# Altium schematic symbol library Schlib1.SchLib: 36 symbols
Pins are listed as number, name and electrical type; pins without a type are passive.

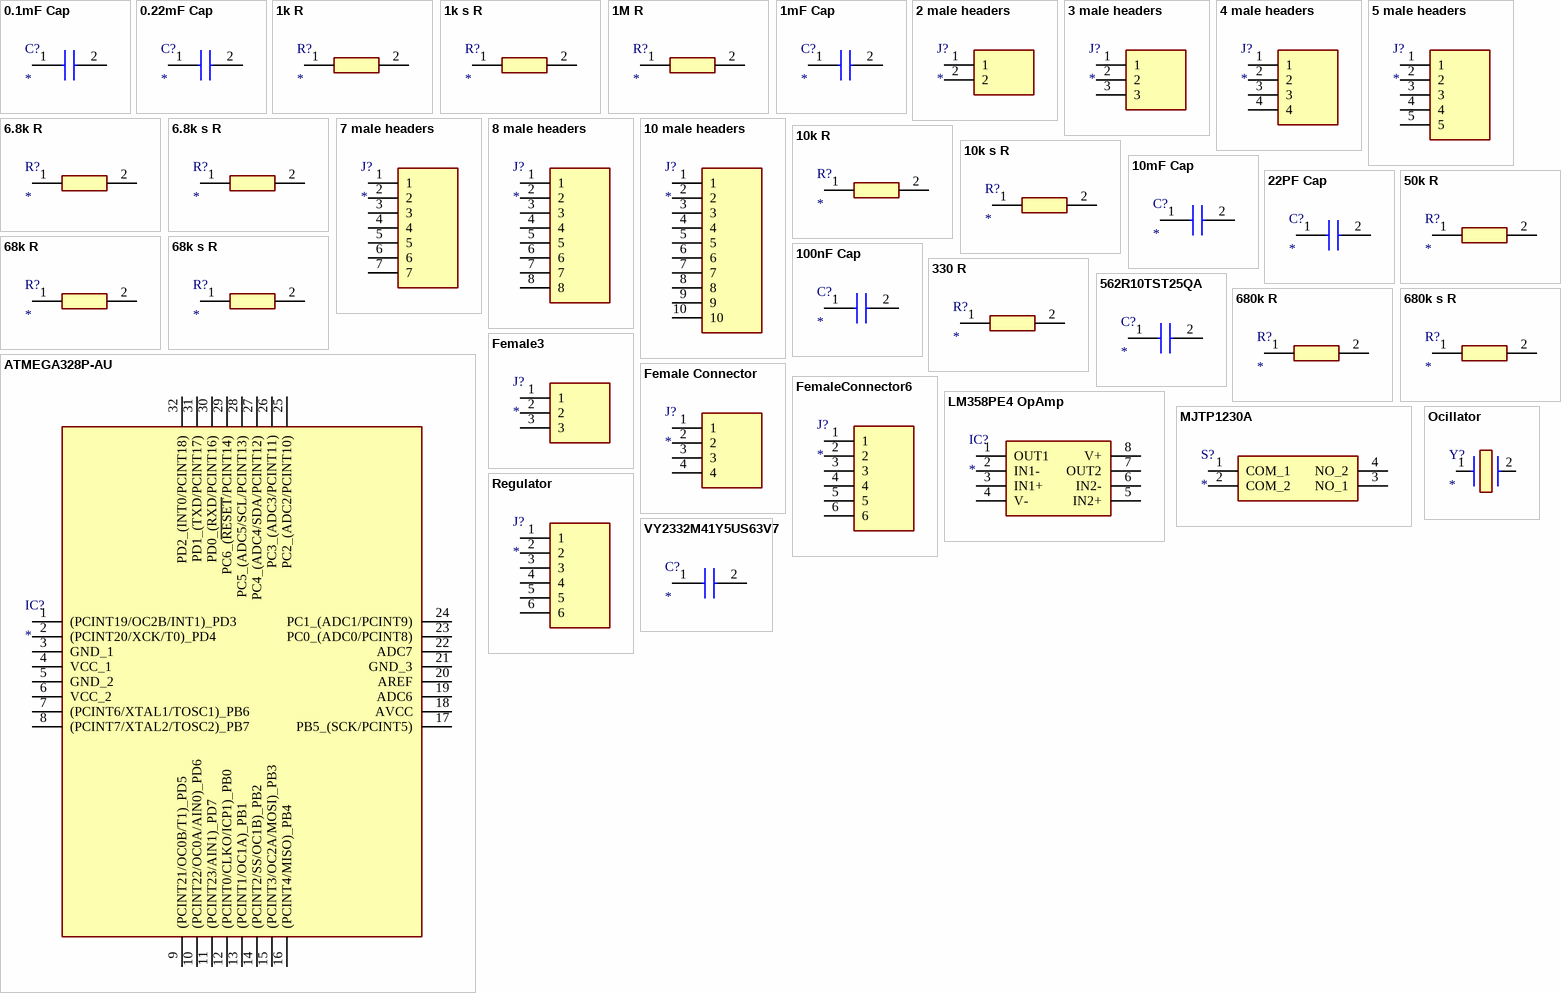
[diagram p0: symbols 0.1mF Cap to VY2332M41Y5US63V7]

## 0.1mF Cap
designator C?
Capacitor; Manufacturer_Name: Vishay; Manufacturer_Part_Number: VY2332M41Y5US63V7; Datasheet Link: https://datasheet.datasheetarchive.com/originals/dk/DKDS-39/9814.pdf; Height: 13.5mm; Mouser Part Number: 72-VY2332M41Y5US63V7; Mouser Price/Stock: https://www.mouser.co.uk/ProductDetail/Vishay-BC-Components/VY2332M41Y5US63V7?qs=YhDfSRCt1jTfstvwiD5kGA%3D%3D
footprint VY2332M41Y5US63V7
pins: 1, 2

## 0.22mF Cap
designator C?
Capacitor; Manufacturer_Name: Vishay; Manufacturer_Part_Number: VY2332M41Y5US63V7; Datasheet Link: https://datasheet.datasheetarchive.com/originals/dk/DKDS-39/9814.pdf; Height: 13.5mm; Mouser Part Number: 72-VY2332M41Y5US63V7; Mouser Price/Stock: https://www.mouser.co.uk/ProductDetail/Vishay-BC-Components/VY2332M41Y5US63V7?qs=YhDfSRCt1jTfstvwiD5kGA%3D%3D
footprint VY2332M41Y5US63V7
pins: 1, 2

## 1k R
designator R?
Resistor; Manufacturer_Name: Vishay; Manufacturer_Part_Number: SFR2500001001JR500; Datasheet Link: https://componentsearchengine.com/Datasheets/1/SFR2500001001JR500.pdf; Mouser Part Number: 594-SFR2500001001JR5; Mouser Price/Stock: https://www.mouser.co.uk/ProductDetail/Vishay-BC-Components/SFR2500001001JR500?qs=58bml8Dt%2Fln%2FVZBlICel6g%3D%3D
footprint RESAD1750W63L750D250
pins: 1, 2

## 1k s R
designator R?
Resistor; Manufacturer_Name: Panasonic; Manufacturer_Part_Number: ERJ-UP6F5760V; Description: Anti-Sulfurated Thick Film Chip Resistors/ Anti-Surge Type; Datasheet Link: https://industrial.panasonic.com/cdbs/www-data/pdf/RDP0000/AOA0000C337.pdf; Height: 0.7mm; Mouser Part Number: 667-ERJ-UP6F5760V; Mouser Price/Stock: https://www.mouser.co.uk/ProductDetail/Panasonic/ERJ-UP6F5760V?qs=dbcCsuKDzFWkTsFWGgr5lA%3D%3D
footprint ERJUP6
pins: 1, 2

## 1M R
designator R?
Resistor; Manufacturer_Name: Vishay; Manufacturer_Part_Number: SFR2500001001JR500; Datasheet Link: https://componentsearchengine.com/Datasheets/1/SFR2500001001JR500.pdf; Mouser Part Number: 594-SFR2500001001JR5; Mouser Price/Stock: https://www.mouser.co.uk/ProductDetail/Vishay-BC-Components/SFR2500001001JR500?qs=58bml8Dt%2Fln%2FVZBlICel6g%3D%3D
footprint RESAD1750W63L750D250
pins: 1, 2

## 1mF Cap
designator C?
Capacitor; Manufacturer_Name: Vishay; Manufacturer_Part_Number: VY2332M41Y5US63V7; Datasheet Link: https://datasheet.datasheetarchive.com/originals/dk/DKDS-39/9814.pdf; Height: 13.5mm; Mouser Part Number: 72-VY2332M41Y5US63V7; Mouser Price/Stock: https://www.mouser.co.uk/ProductDetail/Vishay-BC-Components/VY2332M41Y5US63V7?qs=YhDfSRCt1jTfstvwiD5kGA%3D%3D
footprint VY2332M41Y5US63V7
pins: 1, 2

## 2 male headers
designator J?
Connector; Manufacturer_Name: TE Connectivity; Manufacturer_Part_Number: 826926-2; Description: Body Features: Primary Product Color Green | Configuration Features: Connector Contact Load Condition Fully Loaded | PCB Mount Orientation Vertical | Number of Rows 1 | Board-to-Board Configuration Parallel | Number of Positions 2 | Contact Features: Mating Square Post Dimension .025 INCH | Contact Current Rating (Max) 5 AMP | Contact Shape & Form Square | PCB Contact Termination Area Plating Material Thickness 2 MICM | Contact Underplating Material Nickel | Contact Type Pin | Contact Mating Area Plating Ma; Datasheet Link: http://www.te.com/commerce/DocumentDelivery/DDEController?Action=showdoc&DocId=Customer+Drawing%7F826629%7FAB%7Fpdf%7FEnglish%7FENG_CD_826629_AB.pdf%7F826926-2; Height: 9.7mm; Mouser Part Number: 571-826926-2; Mouser Price/Stock: https://www.mouser.co.uk/ProductDetail/TE-Connectivity/826926-2?qs=wMzmFFBcbXSakt8A2XXzBg%3D%3D; Arrow Part Number: 826926-2; Arrow Price/Stock: https://www.arrow.com/en/products/826926-2/te-connectivity?region=europe
footprint HDRV2W63P0X254_1X2_508X250X970P
pins: 1, 2

## 3 male headers
designator J?
Connector; Manufacturer_Name: TE Connectivity; Manufacturer_Part_Number: 826926-3; Description: Body Features: Primary Product Color Green | Configuration Features: PCB Mount Orientation Vertical | Number of Rows 1 | Connector Contact Load Condition Fully Loaded | Board-to-Board Configuration Parallel | Number of Positions 3 | Contact Features: Mating Square Post Dimension .025 INCH | PCB Contact Termination Area Plating Material Tin | Contact Base Material Phosphor Bronze | Contact Mating Area Plating Material Tin | Contact Current Rating (Max) 5 AMP | Contact Shape & Form Square | PCB Contact Termin; Datasheet Link: http://uk.rs-online.com/web/p/products/6695310; Height: 9.5mm; Mouser Part Number: 571-826926-3; Mouser Price/Stock: https://www.mouser.co.uk/ProductDetail/TE-Connectivity/826926-3?qs=wMzmFFBcbXTx9otzu9%252BXNQ%3D%3D; Arrow Part Number: 826926-3; Arrow Price/Stock: https://www.arrow.com/en/products/826926-3/te-connectivity?region=europe
footprint HDRV3W63P0X254_1X3_762X250X950P
pins: 1, 2, 3

## 4 male headers
designator J?
Connector; Manufacturer_Name: TE Connectivity; Manufacturer_Part_Number: 826629-4; Description: Body Features: Primary Product Color Green | Configuration Features: Number of Rows 1 | Number of Positions 4 | Connector Contact Load Condition Fully Loaded | PCB Mount Orientation Vertical | Board-to-Board Configuration Parallel | Contact Features: Contact Mating Area Plating Material Thickness .8 MICM | Contact Base Material Phosphor Bronze | Contact Underplating Material Nickel | Contact Type Pin | Contact Current Rating (Max) 5 AMP | Contact Shape & Form Square | Mating Square Post Dimension .025 INCH; Datasheet Link: https://componentsearchengine.com/Datasheets/2/826629-4.pdf; Height: 9.5mm; Mouser Part Number: 571-826629-4; Mouser Price/Stock: https://www.mouser.co.uk/ProductDetail/TE-Connectivity/826629-4?qs=FazuUmncXom81cYQ0o6zwQ%3D%3D; Arrow Part Number: 826629-4; Arrow Price/Stock: https://www.arrow.com/en/products/826629-4/te-connectivity?region=europe
footprint HDRV4W63P0X254_1X4_1016X250X950P
pins: 1, 2, 3, 4

## 5 male headers
designator J?
Connector; Manufacturer_Name: TE Connectivity; Manufacturer_Part_Number: 825433-5; Description: Body Features: Primary Product Color Green | Configuration Features: Number of Positions 5 | Connector Contact Load Condition Fully Loaded | Number of Rows 1 | Board-to-Board Configuration Parallel | PCB Mount Orientation Vertical | Contact Features: Contact Mating Area Plating Material Gold or Gold Flash over Palladium Nickel | Mating Square Post Dimension .025 INCH | PCB Contact Termination Area Plating Material Thickness 2.5 MICM | Contact Mating Area Plating Material Thickness .8 MICM | Contact Underpla; Datasheet Link: https://www.te.com/commerce/DocumentDelivery/DDEController?Action=srchrtrv&DocNm=825433&DocType=Customer+Drawing&DocLang=English&DocFormat=pdf&PartCntxt=825433-5; Height: 9.7mm; Mouser Part Number: 571-825433-5; Mouser Price/Stock: https://www.mouser.co.uk/ProductDetail/TE-Connectivity/825433-5?qs=Yxch5oR%2FTsPo6cKMIYPWXA%3D%3D; Arrow Part Number: 825433-5; Arrow Price/Stock: https://www.arrow.com/en/products/825433-5/te-connectivity?region=europe
footprint HDRV5W63P0X254_1X5_1270X254X970P
pins: 1, 2, 3, 4, 5

## 6.8k R
designator R?
Resistor; Manufacturer_Name: Vishay; Manufacturer_Part_Number: SFR2500001001JR500; Datasheet Link: https://componentsearchengine.com/Datasheets/1/SFR2500001001JR500.pdf; Mouser Part Number: 594-SFR2500001001JR5; Mouser Price/Stock: https://www.mouser.co.uk/ProductDetail/Vishay-BC-Components/SFR2500001001JR500?qs=58bml8Dt%2Fln%2FVZBlICel6g%3D%3D
footprint RESAD1750W63L750D250
pins: 1, 2

## 6.8k s R
designator R?
Resistor; Manufacturer_Name: Panasonic; Manufacturer_Part_Number: ERJ-UP6F5760V; Description: Anti-Sulfurated Thick Film Chip Resistors/ Anti-Surge Type; Datasheet Link: https://industrial.panasonic.com/cdbs/www-data/pdf/RDP0000/AOA0000C337.pdf; Height: 0.7mm; Mouser Part Number: 667-ERJ-UP6F5760V; Mouser Price/Stock: https://www.mouser.co.uk/ProductDetail/Panasonic/ERJ-UP6F5760V?qs=dbcCsuKDzFWkTsFWGgr5lA%3D%3D
footprint ERJUP6
pins: 1, 2

## 7 male headers
designator J?
Connector; Manufacturer_Name: Harwin; Manufacturer_Part_Number: M20-9770742; Description: 2.54mm (0.1") Pitch SIL Vertical Throughboard Pin Header; Datasheet Link: https://cdn.harwin.com/pdfs/M20-977.pdf; Height: 8.44mm; Mouser Part Number: 855-M20-9770742; Mouser Price/Stock: https://www.mouser.co.uk/ProductDetail/Harwin/M20-9770742?qs=Jph8NoUxIfVaDMw66mHBZA%3D%3D
footprint HDRV7W66P0X254_1X7_1778X254X844P
pins: 1, 2, 3, 4, 5, 6, 7

## 8 male headers
designator J?
Connector; Manufacturer_Name: Molex; Manufacturer_Part_Number: 87891-0808; Description: Headers & Wire Housings 2.54MM PITCH SRSW T/H HEADER 8 CKT; Datasheet Link: https://www.molex.com/pdm_docs/sd/878910808_sd.pdf; Height: 16.41mm; Mouser Part Number: 538-87891-0808; Mouser Price/Stock: https://www.mouser.co.uk/ProductDetail/Molex/87891-0808?qs=iLbezkQI%252Bsh%252BavKMBAJgwA%3D%3D
footprint HDRV8W69P0X254_1X8_2032X251X1641P
pins: 1, 2, 3, 4, 5, 6, 7, 8

## 10 male headers
designator J?
Connector; Manufacturer_Name: TE Connectivity; Manufacturer_Part_Number: 1-826629-0; Description: 10w Single row straight header gold; Datasheet Link: https://componentsearchengine.com/Datasheets/2/1-826629-0.pdf; Height: 9.5mm; Mouser Part Number: 571-1-826629-0; Mouser Price/Stock: https://www.mouser.co.uk/ProductDetail/TE-Connectivity/1-826629-0?qs=FazuUmncXom0aPLI6ZgGxg%3D%3D; Arrow Part Number: 1-826629-0; Arrow Price/Stock: https://www.arrow.com/en/products/1-826629-0/te-connectivity?region=europe
footprint HDRV10W63P0X254_1X10_2540X250X950P
pins: 1, 2, 3, 4, 5, 6, 7, 8, 9, 10

## 10k R
designator R?
Resistor; Manufacturer_Name: Vishay; Manufacturer_Part_Number: SFR2500001001JR500; Datasheet Link: https://componentsearchengine.com/Datasheets/1/SFR2500001001JR500.pdf; Mouser Part Number: 594-SFR2500001001JR5; Mouser Price/Stock: https://www.mouser.co.uk/ProductDetail/Vishay-BC-Components/SFR2500001001JR500?qs=58bml8Dt%2Fln%2FVZBlICel6g%3D%3D
footprint RESAD1750W63L750D250
pins: 1, 2

## 10k s R
designator R?
Resistor; Manufacturer_Name: Panasonic; Manufacturer_Part_Number: ERJ-UP6F5760V; Description: Anti-Sulfurated Thick Film Chip Resistors/ Anti-Surge Type; Datasheet Link: https://industrial.panasonic.com/cdbs/www-data/pdf/RDP0000/AOA0000C337.pdf; Height: 0.7mm; Mouser Part Number: 667-ERJ-UP6F5760V; Mouser Price/Stock: https://www.mouser.co.uk/ProductDetail/Panasonic/ERJ-UP6F5760V?qs=dbcCsuKDzFWkTsFWGgr5lA%3D%3D
footprint ERJUP6
pins: 1, 2

## 10mF Cap
designator C?
Capacitor; Manufacturer_Name: Vishay; Manufacturer_Part_Number: VY2332M41Y5US63V7; Datasheet Link: https://datasheet.datasheetarchive.com/originals/dk/DKDS-39/9814.pdf; Height: 13.5mm; Mouser Part Number: 72-VY2332M41Y5US63V7; Mouser Price/Stock: https://www.mouser.co.uk/ProductDetail/Vishay-BC-Components/VY2332M41Y5US63V7?qs=YhDfSRCt1jTfstvwiD5kGA%3D%3D
footprint VY2332M41Y5US63V7
pins: 1, 2

## 22PF Cap
designator C?
Capacitor; Manufacturer_Name: Vishay; Manufacturer_Part_Number: VY2332M41Y5US63V7; Datasheet Link: https://datasheet.datasheetarchive.com/originals/dk/DKDS-39/9814.pdf; Height: 13.5mm; Mouser Part Number: 72-VY2332M41Y5US63V7; Mouser Price/Stock: https://www.mouser.co.uk/ProductDetail/Vishay-BC-Components/VY2332M41Y5US63V7?qs=YhDfSRCt1jTfstvwiD5kGA%3D%3D
footprint VY2332M41Y5US63V7
pins: 1, 2

## 50k R
designator R?
Resistor; Manufacturer_Name: Vishay; Manufacturer_Part_Number: SFR2500001001JR500; Datasheet Link: https://componentsearchengine.com/Datasheets/1/SFR2500001001JR500.pdf; Mouser Part Number: 594-SFR2500001001JR5; Mouser Price/Stock: https://www.mouser.co.uk/ProductDetail/Vishay-BC-Components/SFR2500001001JR500?qs=58bml8Dt%2Fln%2FVZBlICel6g%3D%3D
footprint RESAD1750W63L750D250
pins: 1, 2

## 68k R
designator R?
Resistor; Manufacturer_Name: Vishay; Manufacturer_Part_Number: SFR2500001001JR500; Datasheet Link: https://componentsearchengine.com/Datasheets/1/SFR2500001001JR500.pdf; Mouser Part Number: 594-SFR2500001001JR5; Mouser Price/Stock: https://www.mouser.co.uk/ProductDetail/Vishay-BC-Components/SFR2500001001JR500?qs=58bml8Dt%2Fln%2FVZBlICel6g%3D%3D
footprint RESAD1750W63L750D250
pins: 1, 2

## 68k s R
designator R?
Resistor; Manufacturer_Name: Panasonic; Manufacturer_Part_Number: ERJ-UP6F5760V; Description: Anti-Sulfurated Thick Film Chip Resistors/ Anti-Surge Type; Datasheet Link: https://industrial.panasonic.com/cdbs/www-data/pdf/RDP0000/AOA0000C337.pdf; Height: 0.7mm; Mouser Part Number: 667-ERJ-UP6F5760V; Mouser Price/Stock: https://www.mouser.co.uk/ProductDetail/Panasonic/ERJ-UP6F5760V?qs=dbcCsuKDzFWkTsFWGgr5lA%3D%3D
footprint ERJUP6
pins: 1, 2

## 100nF Cap
designator C?
Capacitor; Manufacturer_Name: Vishay; Manufacturer_Part_Number: VY2332M41Y5US63V7; Datasheet Link: https://datasheet.datasheetarchive.com/originals/dk/DKDS-39/9814.pdf; Height: 13.5mm; Mouser Part Number: 72-VY2332M41Y5US63V7; Mouser Price/Stock: https://www.mouser.co.uk/ProductDetail/Vishay-BC-Components/VY2332M41Y5US63V7?qs=YhDfSRCt1jTfstvwiD5kGA%3D%3D
footprint VY2332M41Y5US63V7
pins: 1, 2

## 330 R
designator R?
Resistor; Manufacturer_Name: Vishay; Manufacturer_Part_Number: SFR2500001001JR500; Datasheet Link: https://componentsearchengine.com/Datasheets/1/SFR2500001001JR500.pdf; Mouser Part Number: 594-SFR2500001001JR5; Mouser Price/Stock: https://www.mouser.co.uk/ProductDetail/Vishay-BC-Components/SFR2500001001JR500?qs=58bml8Dt%2Fln%2FVZBlICel6g%3D%3D
footprint RESAD1750W63L750D250
pins: 1, 2

## 562R10TST25QA
designator C?
Capacitor; Manufacturer_Name: Vishay; Manufacturer_Part_Number: 562R10TST25QA; Datasheet Link: https://datasheet.datasheetarchive.com/originals/distributors/Datasheets-DGA10/2427068.pdf; Height: 9.575mm; Mouser Part Number: 75-562R10TST25QA; Mouser Price/Stock: https://www.mouser.co.uk/ProductDetail/Vishay/562R10TST25QA?qs=wq1WKBQ7GcxMfhFDiSc%252BoQ%3D%3D
footprint 562R10TST25QA
pins: 1, 2

## 680k R
designator R?
Resistor; Manufacturer_Name: Vishay; Manufacturer_Part_Number: SFR2500001001JR500; Datasheet Link: https://componentsearchengine.com/Datasheets/1/SFR2500001001JR500.pdf; Mouser Part Number: 594-SFR2500001001JR5; Mouser Price/Stock: https://www.mouser.co.uk/ProductDetail/Vishay-BC-Components/SFR2500001001JR500?qs=58bml8Dt%2Fln%2FVZBlICel6g%3D%3D
footprint RESAD1750W63L750D250
pins: 1, 2

## 680k s R
designator R?
Resistor; Manufacturer_Name: Panasonic; Manufacturer_Part_Number: ERJ-UP6F5760V; Description: Anti-Sulfurated Thick Film Chip Resistors/ Anti-Surge Type; Datasheet Link: https://industrial.panasonic.com/cdbs/www-data/pdf/RDP0000/AOA0000C337.pdf; Height: 0.7mm; Mouser Part Number: 667-ERJ-UP6F5760V; Mouser Price/Stock: https://www.mouser.co.uk/ProductDetail/Panasonic/ERJ-UP6F5760V?qs=dbcCsuKDzFWkTsFWGgr5lA%3D%3D
footprint ERJUP6
pins: 1, 2

## ATMEGA328P-AU
designator IC?
Integrated Circuit; Manufacturer_Name: Microchip; Manufacturer_Part_Number: ATMEGA328P-AU; Datasheet Link: https://componentsearchengine.com/Datasheets/2/ATMEGA328P-AU.pdf; Height: 1.2mm; Mouser Part Number: 556-ATMEGA328P-AU; Mouser Price/Stock: https://www.mouser.co.uk/ProductDetail/Microchip-Technology/ATMEGA328P-AU?qs=K8BHR703ZXiCmmgp6%2FGNmQ%3D%3D; Arrow Part Number: ATMEGA328P-AU; Arrow Price/Stock: https://www.arrow.com/en/products/atmega328p-au/microchip-technology?region=europe
footprint QFP80P900X900X120-32N
pins: 1 (PCINT19/OC2B/INT1)_PD3, 2 (PCINT20/XCK/T0)_PD4, 3 GND_1, 4 VCC_1, 5 GND_2, 6 VCC_2, 7 (PCINT6/XTAL1/TOSC1)_PB6, 8 (PCINT7/XTAL2/TOSC2)_PB7, 9 (PCINT21/OC0B/T1)_PD5, 10 (PCINT22/OC0A/AIN0)_PD6, 11 (PCINT23/AIN1)_PD7, 12 (PCINT0/CLKO/ICP1)_PB0, 13 (PCINT1/OC1A)_PB1, 14 (PCINT2/SS/OC1B)_PB2, 15 (PCINT3/OC2A/MOSI)_PB3, 16 (PCINT4/MISO)_PB4, 17 PB5_(SCK/PCINT5), 18 AVCC, 19 ADC6, 20 AREF, 21 GND_3, 22 ADC7, 23 PC0_(ADC0/PCINT8), 24 PC1_(ADC1/PCINT9), 25 PC2_(ADC2/PCINT10), 26 PC3_(ADC3/PCINT11), 27 PC4_(ADC4/SDA/PCINT12), 28 PC5_(ADC5/SCL/PCINT13), 29 PC6_(~{RESET}/PCINT14), 30 PD0_(RXD/PCINT16), 31 PD1_(TXD/PCINT17), 32 PD2_(INT0/PCINT18)

## Female3
designator J?
Connector; Manufacturer_Name: Harwin; Manufacturer_Part_Number: M20-7820342; Datasheet Link: https://cdn.harwin.com/pdfs/M20-782.pdf; Height: 8.65mm; Mouser Part Number: 855-M20-7820342; Mouser Price/Stock: https://www.mouser.co.uk/ProductDetail/Harwin/M20-7820342?qs=vF78I%252BjhbY%252B2BirjH3D7Cw%3D%3D
footprint RHDR3W70P0X254_1X3_802X250X865P
pins: 1, 2, 3

## Female Connector
designator J?
Connector; Manufacturer_Name: Harwin; Manufacturer_Part_Number: M20-7820442; Datasheet Link: https://cdn.harwin.com/pdfs/M20-782.pdf; Height: 8.65mm; Mouser Part Number: 855-M20-7820442; Mouser Price/Stock: https://www.mouser.co.uk/ProductDetail/Harwin/M20-7820442?qs=vF78I%252BjhbY9ZgDLCXkGx4w%3D%3D
footprint RHDR4W70P0X254_1X4_1056X250X865P
pins: 1, 2, 3, 4

## FemaleConnector6
designator J?
Connector; Manufacturer_Name: Harwin; Manufacturer_Part_Number: M20-7820646; Datasheet Link: https://cdn.harwin.com/pdfs/M20-782.pdf; Height: 8.65mm; Mouser Part Number: 855-M20-7820646; Mouser Price/Stock: https://www.mouser.co.uk/ProductDetail/Harwin/M20-7820646?qs=WS5Jv%252B%252Bx1qWZs4rbTjPGWw%3D%3D
footprint HDRV6W70P0X254_1X6_1564X250X865P
pins: 1, 2, 3, 4, 5, 6

## LM358PE4 OpAmp
designator IC?
Integrated Circuit; Manufacturer_Name: Texas Instruments; Manufacturer_Part_Number: LM358PE4; Datasheet Link: http://www.ti.com/lit/ds/symlink/lm358.pdf; Height: 5.08mm; Mouser Part Number: 595-LM358PE4; Mouser Price/Stock: https://www.mouser.co.uk/ProductDetail/Texas-Instruments/LM358PE4?qs=VBduBm9rCJTWtuRHSrRjAg%3D%3D; Arrow Part Number: LM358PE4; Arrow Price/Stock: https://www.arrow.com/en/products/lm358pe4/texas-instruments?region=nac
footprint DIP794W53P254L959H508Q8N
pins: 1 OUT1, 2 IN1-, 3 IN1+, 4 V-, 5 IN2+, 6 IN2-, 7 OUT2, 8 V+

## MJTP1230A
designator S?
Switch; Manufacturer_Name: Apem; Manufacturer_Part_Number: MJTP1230A; Datasheet Link: https://componentsearchengine.com/Datasheets/2/MJTP1230A.pdf; Height: 5mm; Mouser Part Number: 642-MJTP1230A; Mouser Price/Stock: https://www.mouser.co.uk/ProductDetail/Apem/MJTP1230A?qs=Uv2m1HzDAyrCq22V7auhWA%3D%3D
footprint MJTP1230A
pins: 1 COM_1, 2 COM_2, 3 NO_1, 4 NO_2

## Ocillator
designator Y?
Crystal or Oscillator; Manufacturer_Name: Vishay; Manufacturer_Part_Number: XT9S20ANA8M; Datasheet Link: https://www.vishay.com/docs/35014/xt49s.pdf; Height: 3.5mm; Mouser Part Number: 73-XT49S800-20; Mouser Price/Stock: https://www.mouser.co.uk/ProductDetail/Vishay-Dale/XT9S20ANA8M?qs=oFi4%2FQsgZXYxL7wCZW5FzA%3D%3D; Arrow Part Number: XT9S20ANA8M; Arrow Price/Stock: https://www.arrow.com/en/products/xt9s20ana8m/vishay?region=nac
footprint XT9S20ANA8M
pins: 1, 2

## Regulator
designator J?
Connector; Manufacturer_Name: Harwin; Manufacturer_Part_Number: M20-7820646; Datasheet Link: https://cdn.harwin.com/pdfs/M20-782.pdf; Height: 8.65mm; Mouser Part Number: 855-M20-7820646; Mouser Price/Stock: https://www.mouser.co.uk/ProductDetail/Harwin/M20-7820646?qs=WS5Jv%252B%252Bx1qWZs4rbTjPGWw%3D%3D
footprint HDRV6W70P0X254_1X6_1564X250X865P
pins: 1, 2, 3, 4, 5, 6

## VY2332M41Y5US63V7
designator C?
Capacitor; Manufacturer_Name: Vishay; Manufacturer_Part_Number: VY2332M41Y5US63V7; Datasheet Link: https://datasheet.datasheetarchive.com/originals/dk/DKDS-39/9814.pdf; Height: 13.5mm; Mouser Part Number: 72-VY2332M41Y5US63V7; Mouser Price/Stock: https://www.mouser.co.uk/ProductDetail/Vishay-BC-Components/VY2332M41Y5US63V7?qs=YhDfSRCt1jTfstvwiD5kGA%3D%3D
footprint VY2332M41Y5US63V7
pins: 1, 2